# EAGLE library part RPI_PICO_IG (library RaspberryPi_Pico)
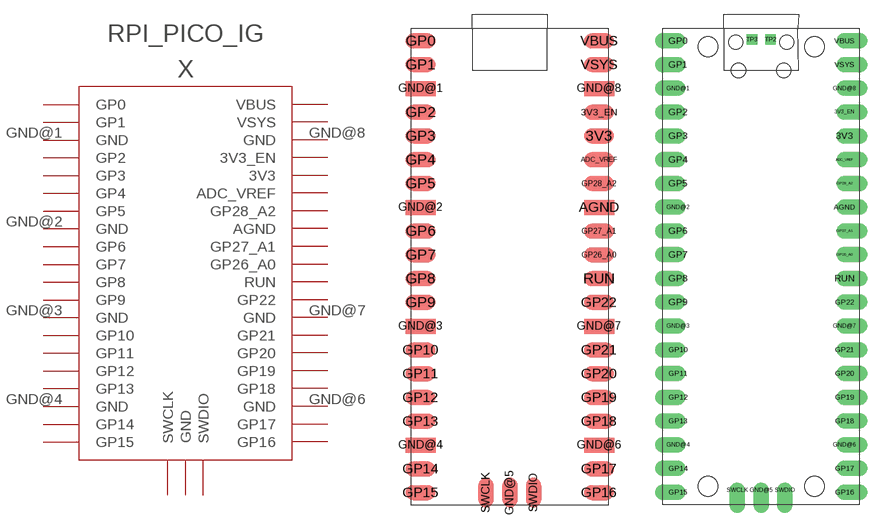
[diagram p1: symbol with the pads of RPI_PICO; footprints RPI_PICO, RPI_PICO_TH]

Designator prefix X

## RPI_PICO_IG-SMD  [RPI_PICO]
3V3  3V3
3V3_EN  3V3_EN
ADC_VREF  ADC_VREF
AGND  AGND
GND@1  GND
GND@2  GND
GND@3  GND
GND@4  GND
GND@5  GND
GND@6  GND
GND@7  GND
GND@8  GND
GP0  GP0
GP1  GP1
GP2  GP2
GP3  GP3
GP4  GP4
GP5  GP5
GP6  GP6
GP7  GP7
GP8  GP8
GP9  GP9
GP10  GP10
GP11  GP11
GP12  GP12
GP13  GP13
GP14  GP14
GP15  GP15
GP16  GP16
GP17  GP17
GP18  GP18
GP19  GP19
GP20  GP20
GP21  GP21
GP22  GP22
GP26_A0  GP26_A0
GP27_A1  GP27_A1
GP28_A2  GP28_A2
RUN  RUN
SWCLK  SWCLK
SWDIO  SWDIO
VBUS  VBUS
VSYS  VSYS

## RPI_PICO_IG-TH  [RPI_PICO_TH]
Pads as for RPI_PICO

## Footprint RPI_PICO (pad centres in mm)
smd 3.2 x 1.6: 3V3 9.525,13.97; 3V3_EN 9.525,16.51; ADC_VREF 9.525,11.43; AGND 9.525,6.35; GND@1 -9.525,19.05; GND@2 -9.525,6.35; GND@3 -9.525,-6.35; GND@4 -9.525,-19.05; GND@6 9.525,-19.05; GND@7 9.525,-6.35; GND@8 9.525,19.05; GP0 -9.525,24.13; GP1 -9.525,21.59; GP2 -9.525,16.51; GP3 -9.525,13.97; GP4 -9.525,11.43; GP5 -9.525,8.89; GP6 -9.525,3.81; GP7 -9.525,1.27; GP8 -9.525,-1.27; GP9 -9.525,-3.81; GP10 -9.525,-8.89; GP11 -9.525,-11.43; GP12 -9.525,-13.97; GP13 -9.525,-16.51; GP14 -9.525,-21.59; GP15 -9.525,-24.13; GP16 9.525,-24.13; GP17 9.525,-21.59; GP18 9.525,-16.51; GP19 9.525,-13.97; GP20 9.525,-11.43; GP21 9.525,-8.89; GP22 9.525,-3.81; GP26_A0 9.525,1.27; GP27_A1 9.525,3.81; GP28_A2 9.525,8.89; RUN 9.525,-1.27; VBUS 9.525,24.13; VSYS 9.525,21.59
smd 1.6 x 3.2: GND@5 0,-24.13; SWCLK -2.54,-24.13; SWDIO 2.54,-24.13

## Footprint RPI_PICO_TH (pad centres in mm)
drill 1.1 pad 1.6 offset: 3V3 8.89,13.97; 3V3_EN 8.89,16.51; ADC_VREF 8.89,11.43; AGND 8.89,6.35; GND@1 -8.89,19.05; GND@2 -8.89,6.35; GND@3 -8.89,-6.35; GND@4 -8.89,-19.05; GND@5 0,-23.9; GND@6 8.89,-19.05; GND@7 8.89,-6.35; GND@8 8.89,19.05; GP0 -8.89,24.13; GP1 -8.89,21.59; GP2 -8.89,16.51; GP3 -8.89,13.97; GP4 -8.89,11.43; GP5 -8.89,8.89; GP6 -8.89,3.81; GP7 -8.89,1.27; GP8 -8.89,-1.27; GP9 -8.89,-3.81; GP10 -8.89,-8.89; GP11 -8.89,-11.43; GP12 -8.89,-13.97; GP13 -8.89,-16.51; GP14 -8.89,-21.59; GP15 -8.89,-24.13; GP16 8.89,-24.13; GP17 8.89,-21.59; GP18 8.89,-16.51; GP19 8.89,-13.97; GP20 8.89,-11.43; GP21 8.89,-8.89; GP22 8.89,-3.81; GP26_A0 8.89,1.27; GP27_A1 8.89,3.81; GP28_A2 8.89,8.89; RUN 8.89,-1.27; SWCLK -2.54,-23.9; SWDIO 2.54,-23.9; VBUS 8.89,24.13; VSYS 8.89,21.59
drill 0.6 pad 0.8 square: TP2 1,24.3; TP3 -1,24.3
hole 1.5 at -2.725,24
hole 1.5 at 2.725,24
hole 1.5 at -2.425,20.97
hole 1.5 at 2.425,20.97
hole 2.1 at -5.7,23.5
hole 2.1 at 5.7,23.5
hole 2.1 at -5.7,-23.5
hole 2.1 at 5.7,-23.5